# Altium schematic symbol library MCU_Espressif.SchLib: 6 symbols
Pins are listed as number, name and electrical type; pins without a type are passive.

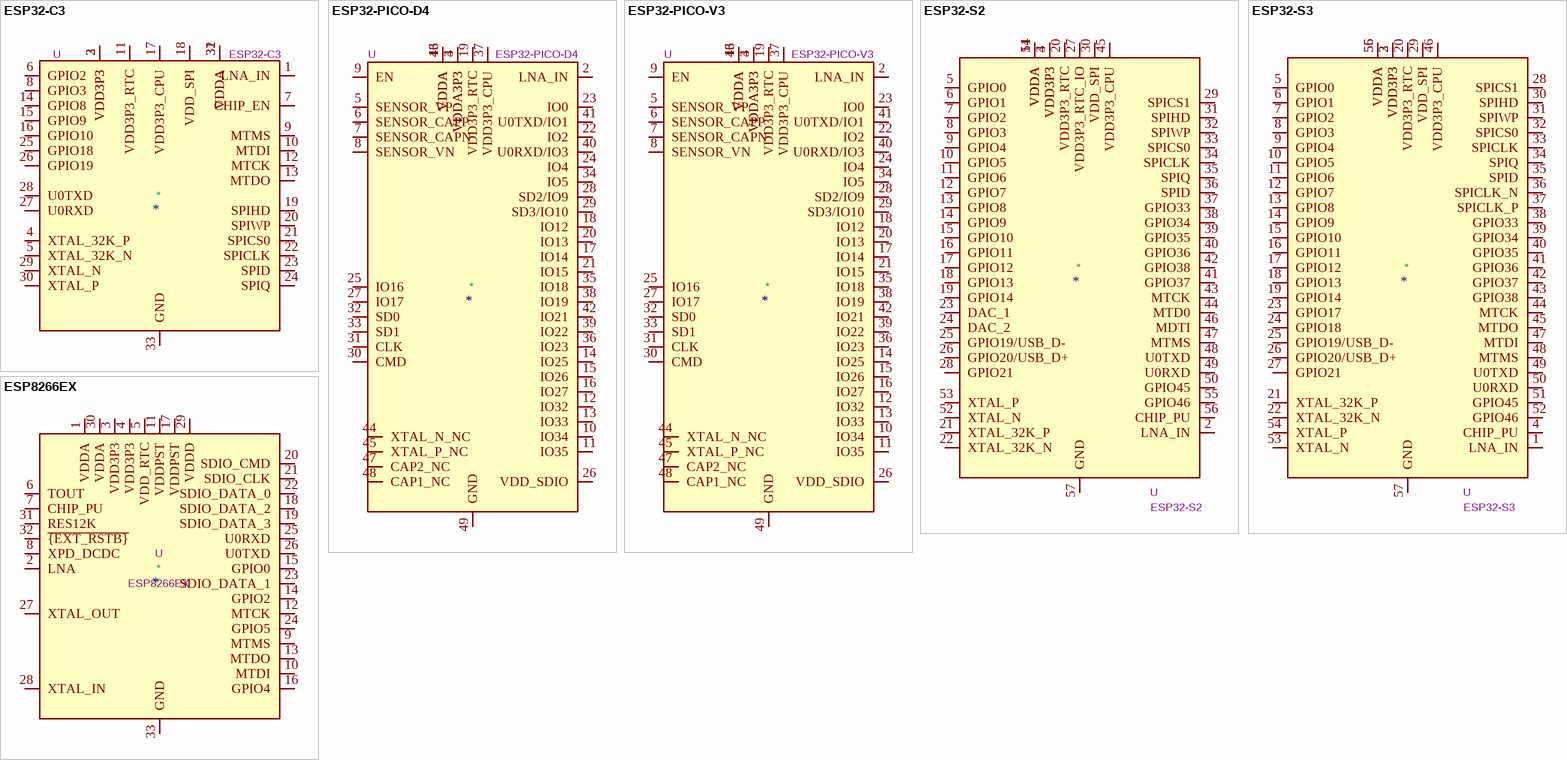
[diagram p0: symbols ESP32-C3 to ESP8266EX]

## ESP32-C3
designator *  value ESP32-C3  Reference: U
RF Module, ESP32 SoC, RISC-V, WiFi 802.11b/n/g, Bluetooth LE 5, QFN32; ki_keywords: WiFi BLE ESP32 Espressif; ki_fp_filters: QFN*1EP*5x5mm*P0.5mm*EP3.7x3.7mm*; Footprint: Package_DFN_QFN:QFN-32-1EP_5x5mm_P0.5mm_EP3.7x3.7mm; Datasheet: https://www.espressif.com/sites/default/files/documentation/esp32-c3_datasheet_en.pdf; Description_: RF Module, ESP32 SoC, RISC-V, WiFi 802.11b/n/g, Bluetooth LE 5, QFN32
pins: 1 LNA_IN, 2 VDD3P3, 3 VDD3P3, 4 XTAL_32K_P, 5 XTAL_32K_N, 6 GPIO2, 7 CHIP_EN, 8 GPIO3, 9 MTMS, 10 MTDI, 11 VDD3P3_RTC, 12 MTCK, 13 MTDO, 14 GPIO8, 15 GPIO9, 16 GPIO10, 17 VDD3P3_CPU, 18 VDD_SPI, 19 SPIHD, 20 SPIWP, 21 SPICS0, 22 SPICLK, 23 SPID, 24 SPIQ, 25 GPIO18, 26 GPIO19, 27 U0RXD, 28 U0TXD, 29 XTAL_N, 30 XTAL_P, 31 VDDA, 32 VDDA, 33 GND

## ESP32-PICO-D4
designator *  value ESP32-PICO-D4  Reference: U
RF Module, ESP32 SoC, Wi-Fi 802.11b/g/n, Bluetooth, BLE, 32-bit, 3.0-3.6V, external antenna, QFN-48; ki_keywords: RF Radio BT ESP ESP32 Espressif external antenna; ki_fp_filters: QFN*1EP*7x7mm*P0.5mm*; Footprint: Package_DFN_QFN:QFN-48-1EP_7x7mm_P0.5mm_EP5.3x5.3mm; Datasheet: https://www.espressif.com/sites/default/files/documentation/esp32-pico_series_datasheet_en.pdf; Description_: RF Module, ESP32 SoC, Wi-Fi 802.11b/g/n, Bluetooth, BLE, 32-bit, 3.0-3.6V, external antenna, QFN-48
pins: 1 VDDA, 2 LNA_IN, 3 VDDA3P3, 4 VDDA3P3, 5 SENSOR_VP, 6 SENSOR_CAPP, 7 SENSOR_CAPN, 8 SENSOR_VN, 9 EN, 10 IO34, 11 IO35, 12 IO32, 13 IO33, 14 IO25, 15 IO26, 16 IO27, 17 IO14, 18 IO12, 19 VDD3P3_RTC, 20 IO13, 21 IO15, 22 IO2, 23 IO0, 24 IO4, 25 IO16, 26 VDD_SDIO, 27 IO17, 28 SD2/IO9, 29 SD3/IO10, 30 CMD, 31 CLK, 32 SD0, 33 SD1, 34 IO5, 35 IO18, 36 IO23, 37 VDD3P3_CPU, 38 IO19, 39 IO22, 40 U0RXD/IO3, 41 U0TXD/IO1, 42 IO21, 43 VDDA, 44 XTAL_N_NC, 45 XTAL_P_NC, 46 VDDA, 47 CAP2_NC, 48 CAP1_NC, 49 GND

## ESP32-PICO-V3
designator *  value ESP32-PICO-V3  Reference: U
RF Module, ESP32 SoC, Wi-Fi 802.11b/g/n, Bluetooth, BLE, 32-bit, 3.0-3.6V, external antenna, QFN-48; ki_keywords: RF Radio BT ESP ESP32 Espressif external antenna; ki_fp_filters: QFN*1EP*7x7mm*P0.5mm*; Footprint: Package_DFN_QFN:QFN-48-1EP_7x7mm_P0.5mm_EP5.3x5.3mm; Datasheet: https://www.espressif.com/sites/default/files/documentation/esp32-pico_series_datasheet_en.pdf; Description_: RF Module, ESP32 SoC, Wi-Fi 802.11b/g/n, Bluetooth, BLE, 32-bit, 3.0-3.6V, external antenna, QFN-48
pins: 1 VDDA, 2 LNA_IN, 3 VDDA3P3, 4 VDDA3P3, 5 SENSOR_VP, 6 SENSOR_CAPP, 7 SENSOR_CAPN, 8 SENSOR_VN, 9 EN, 10 IO34, 11 IO35, 12 IO32, 13 IO33, 14 IO25, 15 IO26, 16 IO27, 17 IO14, 18 IO12, 19 VDD3P3_RTC, 20 IO13, 21 IO15, 22 IO2, 23 IO0, 24 IO4, 25 IO16, 26 VDD_SDIO, 27 IO17, 28 SD2/IO9, 29 SD3/IO10, 30 CMD, 31 CLK, 32 SD0, 33 SD1, 34 IO5, 35 IO18, 36 IO23, 37 VDD3P3_CPU, 38 IO19, 39 IO22, 40 U0RXD/IO3, 41 U0TXD/IO1, 42 IO21, 43 VDDA, 44 XTAL_N_NC, 45 XTAL_P_NC, 46 VDDA, 47 CAP2_NC, 48 CAP1_NC, 49 GND

## ESP32-S2
designator *  value ESP32-S2  Reference: U
Microcontroller, Wi-Fi 802.11b/g/n, Bluetooth, 32bit; ki_keywords: Microcontroller Wi-Fi BT ESP ESP32 Espressif; ki_fp_filters: QFN*1EP*7x7mm*P0.4mm*; Footprint: Package_DFN_QFN:QFN-56-1EP_7x7mm_P0.4mm_EP4x4mm; Datasheet: https://www.espressif.com/sites/default/files/documentation/esp32-s2_datasheet_en.pdf; Description_: Microcontroller, Wi-Fi 802.11b/g/n, Bluetooth, 32bit
pins: 1 VDDA, 2 LNA_IN, 3 VDD3P3, 4 VDD3P3, 5 GPIO0, 6 GPIO1, 7 GPIO2, 8 GPIO3, 9 GPIO4, 10 GPIO5, 11 GPIO6, 12 GPIO7, 13 GPIO8, 14 GPIO9, 15 GPIO10, 16 GPIO11, 17 GPIO12, 18 GPIO13, 19 GPIO14, 20 VDD3P3_RTC, 21 XTAL_32K_P, 22 XTAL_32K_N, 23 DAC_1, 24 DAC_2, 25 GPIO19/USB_D-, 26 GPIO20/USB_D+, 27 VDD3P3_RTC_IO, 28 GPIO21, 29 SPICS1, 30 VDD_SPI, 31 SPIHD, 32 SPIWP, 33 SPICS0, 34 SPICLK, 35 SPIQ, 36 SPID, 37 GPIO33, 38 GPIO34, 39 GPIO35, 40 GPIO36, 41 GPIO37, 42 GPIO38, 43 MTCK, 44 MTD0, 45 VDD3P3_CPU, 46 MDTI, 47 MTMS, 48 U0TXD, 49 U0RXD, 50 GPIO45, 51 VDDA, 52 XTAL_N, 53 XTAL_P, 54 VDDA, 55 GPIO46, 56 CHIP_PU, 57 GND

## ESP32-S3
designator *  value ESP32-S3  Reference: U
Microcontroller, Wi-Fi 802.11b/g/n, Bluetooth, 32bit; ki_keywords: Microcontroller Wi-Fi BT ESP ESP32 Espressif; ki_fp_filters: QFN*1EP*7x7mm*P0.4mm*; Footprint: Package_DFN_QFN:QFN-56-1EP_7x7mm_P0.4mm_EP4x4mm; Datasheet: https://www.espressif.com/sites/default/files/documentation/esp32-s3_datasheet_en.pdf; Description_: Microcontroller, Wi-Fi 802.11b/g/n, Bluetooth, 32bit
pins: 1 LNA_IN, 2 VDD3P3, 3 VDD3P3, 4 CHIP_PU, 5 GPIO0, 6 GPIO1, 7 GPIO2, 8 GPIO3, 9 GPIO4, 10 GPIO5, 11 GPIO6, 12 GPIO7, 13 GPIO8, 14 GPIO9, 15 GPIO10, 16 GPIO11, 17 GPIO12, 18 GPIO13, 19 GPIO14, 20 VDD3P3_RTC, 21 XTAL_32K_P, 22 XTAL_32K_N, 23 GPIO17, 24 GPIO18, 25 GPIO19/USB_D-, 26 GPIO20/USB_D+, 27 GPIO21, 28 SPICS1, 29 VDD_SPI, 30 SPIHD, 31 SPIWP, 32 SPICS0, 33 SPICLK, 34 SPIQ, 35 SPID, 36 SPICLK_N, 37 SPICLK_P, 38 GPIO33, 39 GPIO34, 40 GPIO35, 41 GPIO36, 42 GPIO37, 43 GPIO38, 44 MTCK, 45 MTDO, 46 VDD3P3_CPU, 47 MTDI, 48 MTMS, 49 U0TXD, 50 U0RXD, 51 GPIO45, 52 GPIO46, 53 XTAL_N, 54 XTAL_P, 55 VDDA, 56 VDDA, 57 GND

## ESP8266EX
designator *  value ESP8266EX  Reference: U
Highly integrated Wi-Fi SoC, QFN-32; ki_keywords: wifi soc; ki_fp_filters: QFN*1EP*5x5mm*P0.5mm*; Footprint: Package_DFN_QFN:QFN-32-1EP_5x5mm_P0.5mm_EP3.45x3.45mm; Datasheet: http://espressif.com/sites/default/files/documentation/0a-esp8266ex_datasheet_en.pdf; Description_: Highly integrated Wi-Fi SoC, QFN-32
pins: 1 VDDA, 2 LNA, 3 VDD3P3, 4 VDD3P3, 5 VDD_RTC, 6 TOUT, 7 CHIP_PU, 8 XPD_DCDC, 9 MTMS, 10 MTDI, 11 VDDPST, 12 MTCK, 13 MTDO, 14 GPIO2, 15 GPIO0, 16 GPIO4, 17 VDDPST, 18 SDIO_DATA_2, 19 SDIO_DATA_3, 20 SDIO_CMD, 21 SDIO_CLK, 22 SDIO_DATA_0, 23 SDIO_DATA_1, 24 GPIO5, 25 U0RXD, 26 U0TXD, 27 XTAL_OUT, 28 XTAL_IN, 29 VDDD, 30 VDDA, 31 RES12K, 32 ~{{EXT_RSTB}}, 33 GND